# Altium footprint library Resistors Generic.PcbLib: 1 footprints
Each footprint in its own frame and in the unit in brackets; x right, y up, seen from the top. Pads: shape width x height; smd on the part's side, far side on the other; paste and mask are expansions set on the pad; w line width, h text height; cw(c..) or ccw(c..) is an arc to the next point about the centre after c.
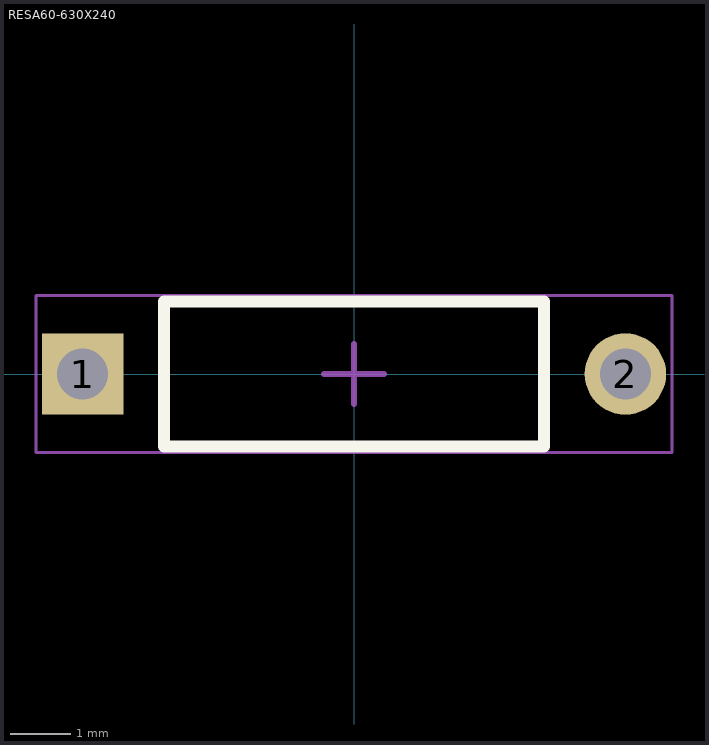
[diagram p0: the footprint, top view; thin cyan lines are the x and y axes]

## RESA60-630X240 [mm] "Axial Resistor, 2-Leads, Dia 2.4mm, Body Length 6.3mm"
height 2.6
pads (2):
  rect 1.35x1.35 hole 0.85: 1(-4.5,0)
  round 1.35 hole 0.85: 2(4.5,0)
Top Overlay:
  lines w0.2: -3.15,-1.2 3.15,-1.2 3.15,1.2 -3.15,1.2 -3.15,-1.2
Mechanical 13:
  lines w0.1: -3.15,-1.2 -3.15,1.2 3.15,1.2 3.15,-1.2 -3.15,-1.2
Mechanical 15:
  lines w0.05: -5.275,-1.3 5.275,-1.3 5.275,1.3 -5.275,1.3 -5.275,-1.3
  lines w0.1: -0.5,0 0.5,0 ; 0,-0.5 0,0.5
3D body: height 2.4, standoff 0, extent -3.15,-1.2 3.15,1.2